# Altium footprint library 18650.PcbLib: 1 footprints
Each footprint in its own frame and in the unit in brackets; x right, y up, seen from the top. Pads: shape width x height; smd on the part's side, far side on the other; paste and mask are expansions set on the pad; w line width, h text height; cw(c..) or ccw(c..) is an arc to the next point about the centre after c.
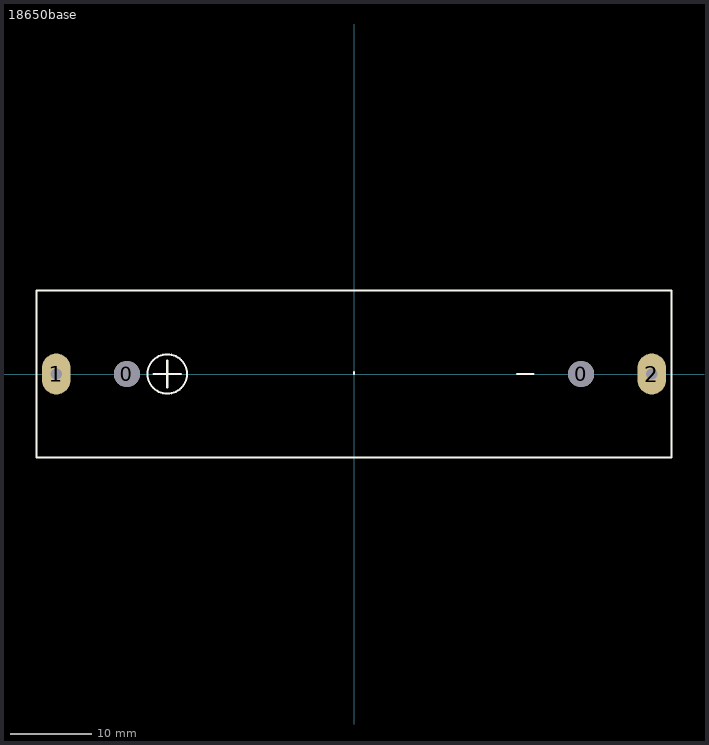
[diagram p0: the footprint, top view; thin cyan lines are the x and y axes]

## 18650base [mm]
pads (4):
  round 3.2 hole 3.2 unplated: 0(-27.805,0) 0(27.805,0)
  oval 3.5x5 hole 1.38 square: 1(-36.45,0) 2(36.45,0)
Top Overlay:
  circle w0.254: c-22.86,0 r2.413
  lines w0.254: -24.511,0 -21.209,0 ; -22.86,-1.651 -22.86,1.651 ; 0,0 0,0.254 ; 19.939,0 21.971,0 ; -38.85,-10.2 -38.85,10.2 38.85,10.2 38.85,-10.2 -38.85,-10.2